# Altium schematic symbol library My Little Freind.SCHLIB: 24 symbols
Pins are listed as number, name and electrical type; pins without a type are passive.

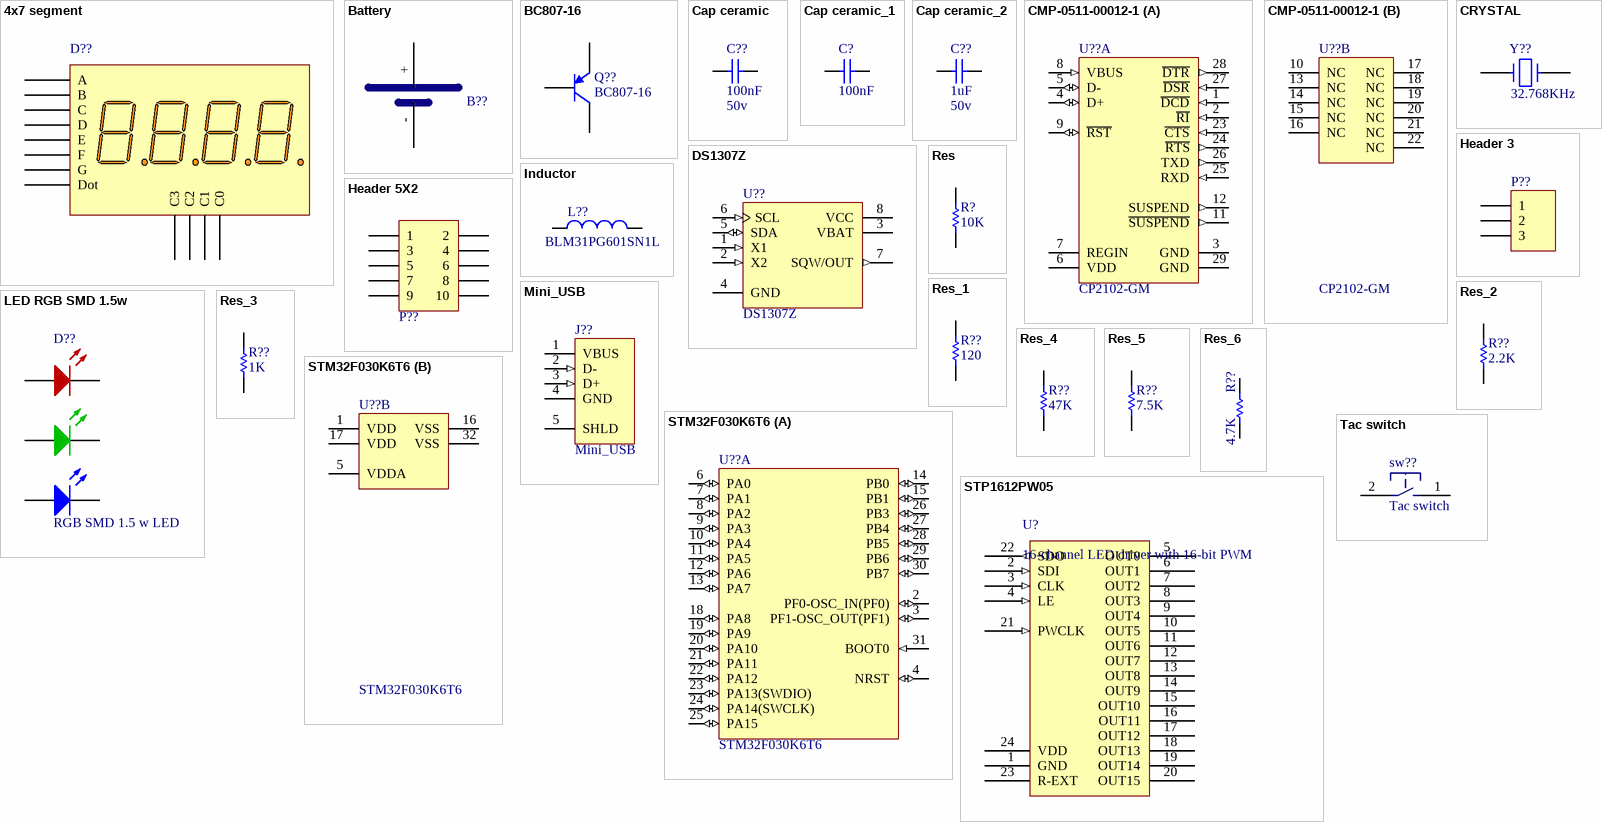
[diagram p0: symbols 4x7 segment to Tac switch]

## 4x7 segment
designator D??, comment comon anode 4x7 segment  (value not drawn)
ASiD Part Number: -AS
footprint MY_4X7_seg
pins: 1 E, 2 D, 3 Dot, 4 C, 5 G, 6 C3, 7 B, 8 C2, 9 C1, 10 F, 11 A, 12 C0

## Battery
designator B??, comment Littium Battery  (value not drawn)
3V PC Littium Battery
footprint MY_RTC BAT SMD (RTC BAT SMD)
pins: 0 hidden, +, -

## BC807-16
designator Q??
PNP General Purpose Amplifier; Published: 8-Jun-2000; LatestRevisionDate: 20-Nov-2009; LatestRevisionNote: IPC-7351 Footprint Added.; DatasheetVersion: 1997; PackageVersion: Sep-1998; PackageReference: SOT-23A; Publisher: Altium Limited; PackageDescription: 3-Pin SOT-23 Package 0.95 mm Pitch, 2.3 mm Lead Span; ComponentLink1Description: Manufacturer Link; ComponentLink1URL: http://www.fairchildsemi.com/; ComponentLink2Description: Datasheet; ComponentLink2URL: http://www.fairchildsemi.com/ds/BC%2FBC807.pdf
footprint SOT-23A_N (SOT23, 3-Leads, Body 2.9x1.3mm, Pitch 0.95mm, Lead Span 2.3mm, IPC Medium Density)
footprint SOT-23A_L (SOT23, 3-Leads, Body 2.9x1.3mm, Pitch 0.95mm, Lead Span 2.3mm, IPC High Density)
footprint SOT-23A_M (SOT23, 3-Leads, Body 2.9x1.3mm, Pitch 0.95mm, Lead Span 2.3mm, IPC Low Density)
simulation model BC807-16 (PNP)
signal-integrity model BC807-16
pins: 1 B, 2 E, 3 C

## Cap ceramic
designator C??, comment Volte: 50v  (hidden comment: 100nF)
None polar capacitor; ASiD Part Number: C-AS; Value: 100nF
footprint My_cap100n
footprint MY_1206
footprint MY_0805
footprint MY_1210
footprint MY_1310
footprint MY_1608
footprint MY_1812
footprint MY_1825
footprint MY_2012
footprint MY_2220
footprint MY_2225
footprint MY_3216
footprint MY_3225
footprint MY_4532
footprint MY_4564
footprint MY_0201
footprint MY_0402
footprint MY_0603
footprint MY_E5-7.5mm
footprint MY_E6-10mm
footprint MY_E8.4-15mm
footprint MY_2010
footprint MY_1218
footprint MY_E5-7.5mmB
footprint MY_E8.7-26.8mm
footprint MY_E9.3-31.6mm
footprint MY_E3.2-10.3mm
footprint MY_2512 (R2512)
footprint MY_0402_A (Chip Resistor, 2-Leads, Body 1.50x0.60mm, IPC Medium Density)
footprint MY_0201_A (Chip Resistor, 2-Leads, Body 1.10x0.50mm, IPC Medium Density)
footprint MY_0402_B (Chip Resistor, 2-Leads, Body 1.50x0.60mm, IPC Medium Density)
pins: 1, 2

## Cap ceramic_1
designator C?, comment 100nF
CAP-100Nf; Value: 100nF
footprint My_cap100n
footprint MY_1206
footprint MY_0805
pins: 1, 2

## Cap ceramic_2
designator C??, comment Volte: 50v  (hidden comment: 1uF)
None polar capacitor; ASiD Part Number: C-AS; Value: 1uF
footprint My_cap100n
footprint MY_1206
footprint MY_0805
footprint MY_1210
footprint MY_1310
footprint MY_1608
footprint MY_1812
footprint MY_1825
footprint MY_2012
footprint MY_2220
footprint MY_2225
footprint MY_3216
footprint MY_3225
footprint MY_4532
footprint MY_4564
footprint MY_0201
footprint MY_0402
footprint MY_0603
footprint MY_E5-7.5mm
footprint MY_E6-10mm
footprint MY_E8.4-15mm
footprint MY_2010
footprint MY_1218
footprint MY_E5-7.5mmB
footprint MY_E8.7-26.8mm
footprint MY_E9.3-31.6mm
footprint MY_E3.2-10.3mm
footprint MY_2512 (R2512)
footprint MY_0402_A (Chip Resistor, 2-Leads, Body 1.50x0.60mm, IPC Medium Density)
footprint MY_0201_A (Chip Resistor, 2-Leads, Body 1.10x0.50mm, IPC Medium Density)
footprint MY_0402_B (Chip Resistor, 2-Leads, Body 1.50x0.60mm, IPC Medium Density)
pins: 1, 2

## CMP-0511-00012-1
designator U??, comment CP2102-GM
Single-Chip USB to UART Bridge, 1024 Bytes EEPROM, -40 to 85 degC, 28-pin QFN, Tube; Manufacturer: Silicon Labs; Internal Oscillator: TRUE; Sub-Family: USB Bridges; ComponentLink3Description: Package Specification; PackageDescription: 28-Pin Quad-Flat No-Leads Package, Body 5 x 5 mm, Pitch 0.5 mm; PartNumber: CP2102-GM; EEPROM: 1024 Bytes; Mounting Technology: Surface Mount; ComponentLink2URL: http://www.silabs.com/Support%20Documents/TechnicalDocs/CP2102-9.pdf; DatasheetVersion: Rev. 1.5; ComponentLink1URL: http://www.silabs.com/; ComponentLink2Description: Datasheet; Code_JEDEC: MO-220; PackageReference: QFN-28; Code_IPC: J-STD-020C; ComponentLink3URL: http://www.silabs.com/Support%20Documents/TechnicalDocs/C8051T61x.pdf; ComponentLink1Description: Manufacturer URL; PartId: 1; Manufacturer 1: Silicon Labs; Manufacturer Part Number 1: CP2102-GM
footprint SLAB-QFN-28-3125x3125TP_N (QFN, 28-Leads, Body 5x5mm, Pitch 0.5mm, Thermal Pad 3.13x3.13mm, IPC Medium Density)
footprint SLAB-QFN-28-3125x3125TP_M (QFN, 28-Leads, Body 5x5mm, Pitch 0.5mm, Thermal Pad 3.13x3.13mm, IPC Low Density)
footprint SLAB-QFN-28-3125x3125TP_L (QFN, 28-Leads, Body 5x5mm, Pitch 0.5mm, Thermal Pad 3.13x3.13mm, IPC High Density)
part A pins: 1 ~{DCD} (in) "Data Carrier Detect control input (active low)", 2 ~{RI} (in) "Ring Indicator control input (active low)", 3 GND (power) "Ground", 4 D+ (io) "USB D+", 5 D- (io) "USB D-", 6 VDD (power) "3.0-3.6 V Power Supply Voltage Input. 3.3 V Voltage Regulator Output", 7 REGIN (power) "5 V Regulator Input. This pin is the input to the on-chip voltage regulator.", 8 VBUS (in) "VBUS Sense Input. This pin should be connected to the VBUS signal of a USB network. A 5 V signal on this pin indicates a USB network connection.", 9 ~{RST} (io) "Device Reset. Open-drain output of internal POR or VDD monitor. An external source can initiate a system reset by driving this pin low for at least 15 us.", 11 ~{SUSPEND} (out), 12 SUSPEND (out), 23 ~{CTS} (in) "Clear To Send control input (active low)", 24 ~{RTS} (out) "Ready to Send control output (active low)", 25 RXD (in) "Asynchronous data input (UART Receive)", 26 TXD (out) "Asynchronous data output (UART Transmit)", 27 ~{DSR} (in) "Data Set Ready control input (active low)", 28 ~{DTR} (out) "Data Terminal Ready control output (active low)", 29 GND (power) "Ground"
part B pins: 10 NC "These pins should be left unconnected or tied to VDD.", 13 NC "These pins should be left unconnected or tied to VDD.", 14 NC "These pins should be left unconnected or tied to VDD.", 15 NC "These pins should be left unconnected or tied to VDD.", 16 NC "These pins should be left unconnected or tied to VDD.", 17 NC "These pins should be left unconnected or tied to VDD.", 18 NC "These pins should be left unconnected or tied to VDD.", 19 NC "These pins should be left unconnected or tied to VDD.", 20 NC "These pins should be left unconnected or tied to VDD.", 21 NC "These pins should be left unconnected or tied to VDD.", 22 NC "These pins should be left unconnected or tied to VDD."

## CRYSTAL
designator Y??, comment 32.768KHz
Crystal; ASiD Part Number: Crystal-AS
footprint My_Crystal
footprint MY_RTC_Crystal
footprint My_Crystal_SMD
footprint My_Crystal_2
pins: 1, 2

## DS1307Z
designator U??
64 X 8 Serial Real-Time Clock; Published: 13-Oct-2000; LatestRevisionDate: 13-Apr-2006; LatestRevisionNote: IPC-7351 Footprint Added.; DatasheetVersion: 10-Aug-1999; PackageVersion: 1999; PackageReference: SOIC8N; Publisher: Altium Limited; PackageDescription: 8-Pin Small Outline Integrated Circuit 1.27 mm Pitch; Code_IPC: SOIC127P600-8; ComponentLink1Description: Manufacturer Link; ComponentLink1URL: http://www.maxim-ic.com/; ComponentLink2Description: Datasheet; ComponentLink2URL: http://pdfserv.maxim-ic.com/en/ds/DS1307.pdf; ComponentLink3Description: Discontinuation Notice; ComponentLink3URL: http://www.maxim-ic.com/qa/pdfs/non-obsolescence-letter.pdf
footprint SOIC8N_N (SOIC, 8-Leads, Body 4.9x3.9mm, Pitch 1.27mm, IPC Medium Density)
footprint SOIC8N_L (SOIC, 8-Leads, Body 4.9x3.9mm, Pitch 1.27mm, IPC High Density)
footprint SOIC8N_M (SOIC, 8-Leads, Body 4.9x3.9mm, Pitch 1.27mm, IPC Low Density)
pins: 1 X1 (in), 2 X2 (in), 3 VBAT (power), 4 GND (power), 5 SDA (io), 6 SCL (in), 7 SQW/OUT (out), 8 VCC (power)

## Header 3
designator P??  (value not drawn)
Header, 3-Pin; ASiD Part Number: Header 3-AS
footprint My_1X03
signal-integrity model Connector
footprint My_CN3
footprint MY_MSTBA3
footprint MY_6410-03
footprint MY_7395-03
footprint MY_FE03
footprint MY_FE03W
footprint MY_MA03-1W
footprint MY_ECH381H_03P
pins: 1, 2, 3

## Header 5X2
designator P??  (value not drawn)
Header, 10-Pin, Dual row; ASiD Part Number: Header 5X2-AS
footprint MY_2x05
footprint MY_2X05_BOX
footprint MY_ML10L
footprint MY_FE05-2
footprint MY_FE05-2W
footprint MY_MA05-2W
footprint MY_87831-1020
footprint MY_2x05_1.27MM
footprint MY_2x05_F1.27MM
pins: 1, 2, 3, 4, 5, 6, 7, 8, 9, 10

## Inductor
designator L??, comment BLM31PG601SN1L
Inductor; ASiD Part Number: Inductor-AS; Current: 1A; Value: BLM31PG601SN1L
footprint MY_Coil
footprint MY_0805
footprint MY_1206
footprint MY_1210
footprint MY_1310
footprint MY_1608
footprint MY_1812
footprint MY_1825
footprint MY_2012
footprint MY_2220
footprint MY_2225
footprint MY_3216
footprint MY_3225
footprint MY_4532
footprint MY_4564
footprint MY_DR73
footprint MY_DR125
footprint MY_ED16
footprint MY_ED22
footprint MY_ED26
footprint MY_ED38
footprint MY_ED43
footprint MY_SFT830D
footprint MY_SFT830S
footprint MY_SFT1030
footprint MY_SFT840D
footprint MY_SFT1040
footprint MY_SFT1240
footprint MY_0201
footprint MY_0402
footprint MY_0603
footprint MY_10mm_Self
footprint MY_2010
footprint MY_1218
footprint MY_SLF6028
footprint MY_DR1030
footprint MY_2512 (R2512)
footprint MY_0402_A (Chip Resistor, 2-Leads, Body 1.50x0.60mm, IPC Medium Density)
footprint MY_0201_A (Chip Resistor, 2-Leads, Body 1.10x0.50mm, IPC Medium Density)
footprint MY_2520 (2Aµç¸Ð2520)
footprint MY_2520 (2Aµç¸Ð2520)
footprint MY_0402_B (Chip Resistor, 2-Leads, Body 1.50x0.60mm, IPC Medium Density)
pins: 1, 2

## LED RGB SMD 1.5w
designator D??, comment RGB SMD 1.5 w LED
Enhanced Power RGB LED; ASiD Part Number: LED RGB SMD 1.5w-AS
footprint MY_RGB_SMD_1.5w
pins: AB A, AG A, AR A, KB K, KG K, KR K

## Mini_USB
designator J??
USB 2.0, Right Angle, SMT, B Type, Receptacle, 5 Position, Black; ASiD Part Number: Mini_USB-AS
footprint My_USB
signal-integrity model USB2.0
footprint MY_USB_B
footprint MY_USB_HOST
footprint MY_USBV (Footprint not found)
footprint MY_Micro_USB_B
footprint MY_Micro_USB_B2
pins: 1 VBUS (power) "Power", 2 D- (in) "-DATA", 3 D+ (in) "+DATA", 4 GND (power) "Ground", 5 SHLD "Shield"

## Res
designator R?, comment 10K
resistor 1/4 wat; Value: 10K
footprint My_axial-0.4
footprint MY_1206
footprint MY_0805
footprint MY_ST_.25
pins: 1, 2

## Res_1
designator R??, comment 120
Standard resistor; ASiD Part Number: Res-AS; Value: 120
footprint MY_1206
footprint MY_0805
footprint MY_1210
footprint MY_1310
footprint MY_1608
footprint MY_1812
footprint MY_1825
footprint MY_2012
footprint MY_2220
footprint MY_2225
footprint MY_3216
footprint MY_3225
footprint MY_4532
footprint MY_4564
footprint MY_0201
footprint MY_0402
footprint MY_0603
footprint MY_(0.25w)_0207V
footprint MY_(0.25w)_0207_10
footprint MY_0309V
footprint MY_0309_12
footprint MY_0414V
footprint MY_0414_15
footprint MY_(0.5w)_0411V
footprint MY_(0.5w)_0411_15
footprint MY_(1w)_0613V
footprint MY_(1w)_0613_15
footprint MY_(2w)_0617V
footprint MY_(2w)_0617_22
footprint MY_(3w)_0817V
footprint MY_(3w)_0817_22
footprint MY_(5w)_0922V
footprint MY_(5w)_0922_22
footprint MY_2010
footprint MY_1218
footprint MY_2512 (R2512)
footprint MY_0402_A (Chip Resistor, 2-Leads, Body 1.50x0.60mm, IPC Medium Density)
footprint MY_0201_A (Chip Resistor, 2-Leads, Body 1.10x0.50mm, IPC Medium Density)
footprint MY_0402_B (Chip Resistor, 2-Leads, Body 1.50x0.60mm, IPC Medium Density)
pins: 1, 2

## Res_2
designator R??, comment 2.2K
Standard resistor; ASiD Part Number: Res-AS; Value: 2.2K
footprint MY_1206
footprint MY_0805
footprint MY_1210
footprint MY_1310
footprint MY_1608
footprint MY_1812
footprint MY_1825
footprint MY_2012
footprint MY_2220
footprint MY_2225
footprint MY_3216
footprint MY_3225
footprint MY_4532
footprint MY_4564
footprint MY_0201
footprint MY_0402
footprint MY_0603
footprint MY_(0.25w)_0207V
footprint MY_(0.25w)_0207_10
footprint MY_0309V
footprint MY_0309_12
footprint MY_0414V
footprint MY_0414_15
footprint MY_(0.5w)_0411V
footprint MY_(0.5w)_0411_15
footprint MY_(1w)_0613V
footprint MY_(1w)_0613_15
footprint MY_(2w)_0617V
footprint MY_(2w)_0617_22
footprint MY_(3w)_0817V
footprint MY_(3w)_0817_22
footprint MY_(5w)_0922V
footprint MY_(5w)_0922_22
footprint MY_2010
footprint MY_1218
footprint MY_2512 (R2512)
footprint MY_0402_A (Chip Resistor, 2-Leads, Body 1.50x0.60mm, IPC Medium Density)
footprint MY_0201_A (Chip Resistor, 2-Leads, Body 1.10x0.50mm, IPC Medium Density)
footprint MY_0402_B (Chip Resistor, 2-Leads, Body 1.50x0.60mm, IPC Medium Density)
pins: 1, 2

## Res_3
designator R??, comment 1K
Standard resistor; ASiD Part Number: Res-AS; Value: 1K
footprint MY_1206
footprint MY_0805
footprint MY_1210
footprint MY_1310
footprint MY_1608
footprint MY_1812
footprint MY_1825
footprint MY_2012
footprint MY_2220
footprint MY_2225
footprint MY_3216
footprint MY_3225
footprint MY_4532
footprint MY_4564
footprint MY_0201
footprint MY_0402
footprint MY_0603
footprint MY_(0.25w)_0207V
footprint MY_(0.25w)_0207_10
footprint MY_0309V
footprint MY_0309_12
footprint MY_0414V
footprint MY_0414_15
footprint MY_(0.5w)_0411V
footprint MY_(0.5w)_0411_15
footprint MY_(1w)_0613V
footprint MY_(1w)_0613_15
footprint MY_(2w)_0617V
footprint MY_(2w)_0617_22
footprint MY_(3w)_0817V
footprint MY_(3w)_0817_22
footprint MY_(5w)_0922V
footprint MY_(5w)_0922_22
footprint MY_2010
footprint MY_1218
footprint MY_2512 (R2512)
footprint MY_0402_A (Chip Resistor, 2-Leads, Body 1.50x0.60mm, IPC Medium Density)
footprint MY_0201_A (Chip Resistor, 2-Leads, Body 1.10x0.50mm, IPC Medium Density)
footprint MY_0402_B (Chip Resistor, 2-Leads, Body 1.50x0.60mm, IPC Medium Density)
pins: 1, 2

## Res_4
designator R??, comment 47K
Standard resistor; ASiD Part Number: Res-AS; Value: 47K
footprint MY_1206
footprint MY_0805
footprint MY_1210
footprint MY_1310
footprint MY_1608
footprint MY_1812
footprint MY_1825
footprint MY_2012
footprint MY_2220
footprint MY_2225
footprint MY_3216
footprint MY_3225
footprint MY_4532
footprint MY_4564
footprint MY_0201
footprint MY_0402
footprint MY_0603
footprint MY_(0.25w)_0207V
footprint MY_(0.25w)_0207_10
footprint MY_0309V
footprint MY_0309_12
footprint MY_0414V
footprint MY_0414_15
footprint MY_(0.5w)_0411V
footprint MY_(0.5w)_0411_15
footprint MY_(1w)_0613V
footprint MY_(1w)_0613_15
footprint MY_(2w)_0617V
footprint MY_(2w)_0617_22
footprint MY_(3w)_0817V
footprint MY_(3w)_0817_22
footprint MY_(5w)_0922V
footprint MY_(5w)_0922_22
footprint MY_2010
footprint MY_1218
footprint MY_2512 (R2512)
pins: 1, 2

## Res_5
designator R??, comment 7.5K
Standard resistor; ASiD Part Number: Res-AS; Value: 7.5K
footprint MY_1206
footprint MY_0805
footprint MY_1210
footprint MY_1310
footprint MY_1608
footprint MY_1812
footprint MY_1825
footprint MY_2012
footprint MY_2220
footprint MY_2225
footprint MY_3216
footprint MY_3225
footprint MY_4532
footprint MY_4564
footprint MY_0201
footprint MY_0402
footprint MY_0603
footprint MY_(0.25w)_0207V
footprint MY_(0.25w)_0207_10
footprint MY_0309V
footprint MY_0309_12
footprint MY_0414V
footprint MY_0414_15
footprint MY_(0.5w)_0411V
footprint MY_(0.5w)_0411_15
footprint MY_(1w)_0613V
footprint MY_(1w)_0613_15
footprint MY_(2w)_0617V
footprint MY_(2w)_0617_22
footprint MY_(3w)_0817V
footprint MY_(3w)_0817_22
footprint MY_(5w)_0922V
footprint MY_(5w)_0922_22
footprint MY_2010
footprint MY_1218
footprint MY_2512 (R2512)
pins: 1, 2

## Res_6
designator R??, comment 4.7K
Standard resistor; ASiD Part Number: Res-AS; Value: 4.7K
footprint MY_1206
footprint MY_0805
footprint MY_1210
footprint MY_1310
footprint MY_1608
footprint MY_1812
footprint MY_1825
footprint MY_2012
footprint MY_2220
footprint MY_2225
footprint MY_3216
footprint MY_3225
footprint MY_4532
footprint MY_4564
footprint MY_0201
footprint MY_0402
footprint MY_0603
footprint MY_(0.25w)_0207V
footprint MY_(0.25w)_0207_10
footprint MY_0309V
footprint MY_0309_12
footprint MY_0414V
footprint MY_0414_15
footprint MY_(0.5w)_0411V
footprint MY_(0.5w)_0411_15
footprint MY_(1w)_0613V
footprint MY_(1w)_0613_15
footprint MY_(2w)_0617V
footprint MY_(2w)_0617_22
footprint MY_(3w)_0817V
footprint MY_(3w)_0817_22
footprint MY_(5w)_0922V
footprint MY_(5w)_0922_22
footprint MY_2010
footprint MY_1218
footprint MY_2512 (R2512)
pins: 1, 2

## STM32F030K6T6
designator U??
ARM Cortex-M0 32-bit MCU, 32 KB Flash, 4 KB Internal RAM, 26 I/Os, 32-pin LQFP, -40 to 85 degC, Tray; FLASH Size (Prog) (kB): 32; I/Os (High Current): 26; Internal RAM Size (kB): 4; Operating Frequency(F) (Processor speed) (MHz): 48; Supply Voltage(Vcc) min (V): 2.4; DatasheetVersion: Rev. 1; PackageVersion: Rev. 1, 07/2013; PackageReference: LQFP32; PackageDescription: 32-Pin Low Profile Quad Flat Package, 7 x 7 mm Body, 0.8 mm Pitch; Supplier 1: Digi-Key; Supplier Part Number 1: 497-14046-ND; Supplier 2: Newark; Supplier Part Number 2: 19X6194; Supplier 3: Mouser; Supplier Part Number 3: 511-STM32F030K6T6; Core: ARM Cortex-M0; Packing: Tray; Mounting Technology: Surface Mount; PartNumber: STM32F030K6T6; ComponentLink1Description: Manufacturer URL; ComponentLink1URL: http://www.st.com/web/en/home.html; ComponentLink2Description: Datasheet; ComponentLink2URL: http://www.st.com/st-web-ui/static/active/en/resource/technical/document/datasheet/DM00088500.pdf; ComponentLink3Description: Package Specification; ComponentLink3URL: http://www.st.com/st-web-ui/static/active/en/resource/technical/document/datasheet/DM00088500.pdf
footprint STM-LQFP32_N (QFP, 32-Leads, Body 7x7mm, Pitch 0.8mm, IPC Medium Density)
footprint STM-LQFP32_L (QFP, 32-Leads, Body 7x7mm, Pitch 0.8mm, IPC High Density)
footprint STM-LQFP32_M (QFP, 32-Leads, Body 7x7mm, Pitch 0.8mm, IPC Low Density)
part A pins: 2 PF0-OSC_IN(PF0) (io) "PF0-OSC_IN(PF0)/OSC_IN", 3 PF1-OSC_OUT(PF1) (io) "PF1-OSC_OUT(PF1)/OSC_OUT", 4 NRST (io) "Device reset input / internal reset output (active low)", 6 PA0 (io) "PA0/USART1_CTS/ADC_IN0,RTC_TAMP2,WKUP1", 7 PA1 (io) "PA1/USART1_RTS,EVENTOUT/ADC_IN1", 8 PA2 (io) "PA2/USART1_TX/ADC_IN2", 9 PA3 (io) "PA3/USART1_RX/ADC_IN3", 10 PA4 (io) "PA4/SPI1_NSS,USART1_CK,TIM14_CH1/ADC_IN4", 11 PA5 (io) "PA5/SPI1_SCK/ADC_IN5", 12 PA6 (io) "PA6/SPI1_MISO,TIM3_CH1,TIM1_BKIN,TIM16_CH1,EVENTOUT/ADC_IN6", 13 PA7 (io) "PA7/SPI1_MOSI,TIM3_CH2,TIM14_CH1,TIM1_CH1N,TIM17_CH1,EVENTOUT/ADC_IN7", 14 PB0 (io) "PB0/TIM3_CH3,TIM1_CH2N,EVENTOUT/ADC_IN8", 15 PB1 (io) "PB1/TIM3_CH4,TIM14_CH1,TIM1_CH3N/ADC_IN9", 18 PA8 (io) "PA8/USART1_CK,TIM1_CH1,EVENTOUT,MCO", 19 PA9 (io) "PA9/USART1_TX,TIM1_CH2,I2C1_SCL", 20 PA10 (io) "PA10/USART1_RX,TIM1_CH3,TIM17_BKIN,I2C1_SDA", 21 PA11 (io) "PA11/USART1_CTS,TIM1_CH4,EVENTOUT", 22 PA12 (io) "PA12/USART1_RTS,TIM1_ETR,EVENTOUT", 23 PA13(SWDIO) (io) "PA13(SWDIO)/IR_OUT,SWDIO", 24 PA14(SWCLK) (io) "PA14(SWCLK)/USART1_TX,SWCLK", 25 PA15 (io) "PA15/SPI1_NSS,USART1_RX,EVENTOUT", 26 PB3 (io) "PB3/SPI1_SCK,EVENTOUT", 27 PB4 (io) "PB4/SPI1_MISO,TIM3_CH1,EVENTOUT", 28 PB5 (io) "PB5/SPI1_MOSI,I2C1_SMBA,TIM16_BKIN,TIM3_CH2", 29 PB6 (io) "PB6/I2C1_SCL,USART1_TX,TIM16_CH1N", 30 PB7 (io) "PB7/I2C1_SDA,USART1_RX,TIM17_CH1N", 31 BOOT0 (in) "Boot memory selection"
part B pins: 1 VDD (power) "Digital power supply", 5 VDDA (power) "Analog power supply", 16 VSS (power) "Ground", 17 VDD (power) "Digital power supply", 32 VSS (power) "Ground"

## STP1612PW05
designator U?, comment 16-channel LED driver with 16-bit PWM
16-channel LED driver with 16-bit PWM, / 8-bit gain and full LED error detection
footprint MY_SSOP24 (TSOP, 24-Leads, Body 7.80x4.40mm, Pitch 0.65mm, IPC Medium Density)
pins: 1 GND (power), 2 SDI (in), 3 CLK (in), 4 LE (in), 5 OUT0 (oc), 6 OUT1 (oc), 7 OUT2 (oc), 8 OUT3 (oc), 9 OUT4 (oc), 10 OUT5 (oc), 11 OUT6 (oc), 12 OUT7 (oc), 13 OUT8 (oc), 14 OUT9 (oc), 15 OUT10 (oc), 16 OUT11 (oc), 17 OUT12 (oc), 18 OUT13 (oc), 19 OUT14 (oc), 20 OUT15 (oc), 21 PWCLK (in), 22 SDO (out), 23 R-EXT, 24 VDD (power)

## Tac switch
designator sw??
small tac switch; ASiD Part Number: Tac switch-AS
footprint MY_TACTILE-PTH
footprint MY_TACTILE-PTH_4X
footprint MY_TACTILE-SMD
footprint MY_PB-SMD (Switch; 2 Leads)
pins: 1, 2